# EAGLE library part ADAFRUIT_PRO_TRINKET_5V0 (library adafruit_pro_Trinket)
adafruit pro trinket 5V / 16MHz product link <https://www.adafruit.com/product/2000>
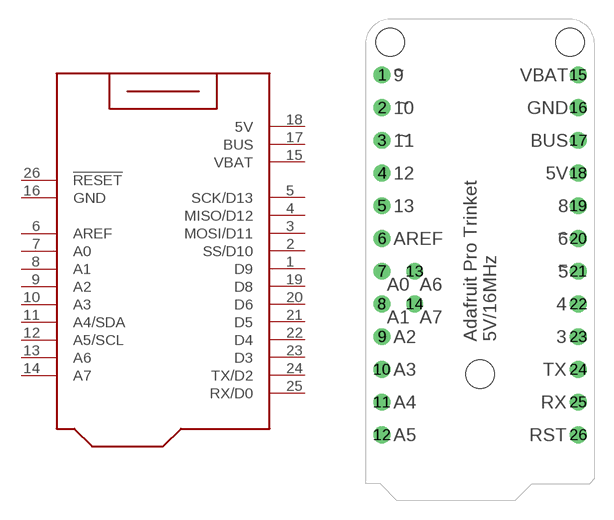
[diagram p0: symbol with the pads of ADAFRUIT_PROTRINKET_5V0; footprint ADAFRUIT_PROTRINKET_5V0]

Designator prefix -

## ADAFRUIT_PRO_TRINKET_5V0  [ADAFRUIT_PROTRINKET_5V0]
1  D9
2  SS/D10
3  MOSI/D11
4  MISO/D12
5  SCK/D13
6  AREF  pas
7  A0
8  A1
9  A2
10  A3
11  A4/SDA
12  A5/SCL
13  A6
14  A7
15  VBAT  sup
16  GND  pwr
17  BUS  sup
18  5V  sup
19  D8
20  D6
21  D5
22  D4
23  D3
24  TX/D2
25  RX/D0
26  !RESET  in

## Footprint ADAFRUIT_PROTRINKET_5V0 (pad centres in mm)
drill 0.8: 1 1.27,33.02; 2 1.27,30.48; 3 1.27,27.94; 4 1.27,25.4; 5 1.27,22.86; 6 1.27,20.32; 7 1.27,17.78; 8 1.27,15.24; 9 1.27,12.7; 10 1.27,10.16; 11 1.27,7.62; 12 1.27,5.08; 13 3.81,17.78; 14 3.81,15.24; 15 16.51,33.02; 16 16.51,30.48; 17 16.51,27.94; 18 16.51,25.4; 19 16.51,22.86; 20 16.51,20.32; 21 16.51,17.78; 22 16.51,15.24; 23 16.51,12.7; 24 16.51,10.16; 25 16.51,7.62; 26 16.51,5.08
hole 2.2 at 1.905,35.56
hole 2.2 at 15.875,35.56
hole 2.2 at 8.89,9.779